# EAGLE library part MOLEX_52808-1671_NON_ZIF (library Steckverbinder - THT & SMD)
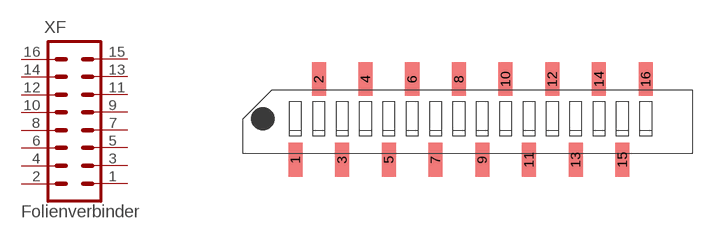
[diagram p2: symbol with the pads of MOLEX_52808_1671_NON_ZIF; footprint MOLEX_52808_1671_NON_ZIF]

Designator prefix XF

## MOLEX_52808-1671_NON_ZIF  [MOLEX_52808_1671_NON_ZIF]
1  1  pas
2  2  pas
3  3  pas
4  4  pas
5  5  pas
6  6  pas
7  7  pas
8  8  pas
9  9  pas
10  10  pas
11  11  pas
12  12  pas
13  13  pas
14  14  pas
15  15  pas
16  16  pas

## Footprint MOLEX_52808_1671_NON_ZIF (pad centres in mm)
MOLEX_52808-1671 NON ZIP FPC Steckverbinder Raster 1 mm gerade Kabeleinführung von oben
smd 0.6 x 1.45: 1 -7.5,-1.75; 2 -6.5,1.7; 3 -5.5,-1.75; 4 -4.5,1.7; 5 -3.5,-1.75; 6 -2.5,1.7; 7 -1.5,-1.75; 8 -0.5,1.7; 9 0.5,-1.75; 10 1.5,1.7; 11 2.5,-1.75; 12 3.5,1.7; 13 4.5,-1.75; 14 5.5,1.7; 15 6.5,-1.75; 16 7.5,1.7